# Altium footprint library ballast_1oz_50ohm.PcbLib: 1 footprints
Each footprint in its own frame and in the unit in brackets; x right, y up, seen from the top. Pads: shape width x height; smd on the part's side, far side on the other; paste and mask are expansions set on the pad; w line width, h text height; cw(c..) or ccw(c..) is an arc to the next point about the centre after c.
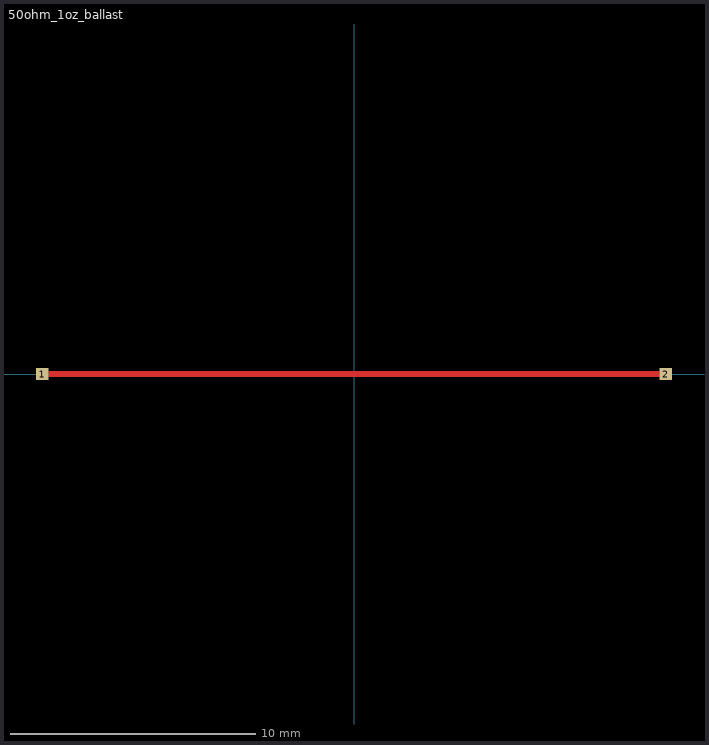
[diagram p0: the footprint, top view; thin cyan lines are the x and y axes]

## 50ohm_1oz_ballast [mil]
pads (2):
  rect 20x20 smd paste-10: 1(-500,0) 2(500,0)
Top Layer:
  rectangle: -490,-5 490,5